# EAGLE library part NRF024 (library zkseagle)
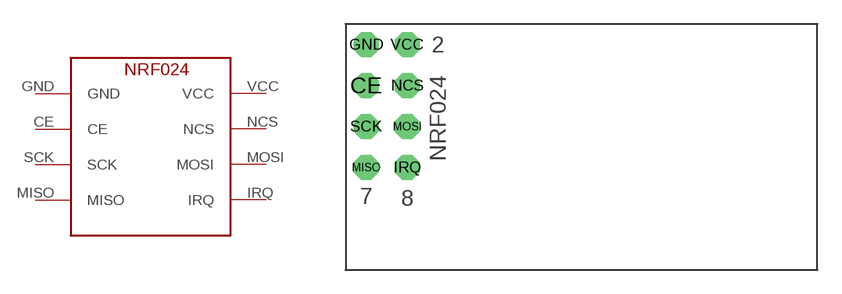
[diagram p24: symbol with the pads of NRF024_P; footprint NRF024_P]

Designator prefix -

## NRF024  [NRF024_P]
CE  CE  in
GND  GND  sup
IRQ  IRQ
MISO  MISO
MOSI  MOSI  in
NCS  NCS  in
SCK  SCK  in
VCC  VCC  sup

## Footprint NRF024_P (pad centres in mm)
drill 1 pad 1.524 octagon: CE -2.54,5.08; GND -2.54,7.62; IRQ 0,0; MISO -2.54,0; MOSI 0,2.54; NCS 0,5.08; SCK -2.54,2.54; VCC 0,7.62